# Altium footprint library LUMW.PcbLib: 4 footprints
Each footprint in its own frame and in the unit in brackets; x right, y up, seen from the top. Pads: shape width x height; smd on the part's side, far side on the other; paste and mask are expansions set on the pad; w line width, h text height; cw(c..) or ccw(c..) is an arc to the next point about the centre after c.
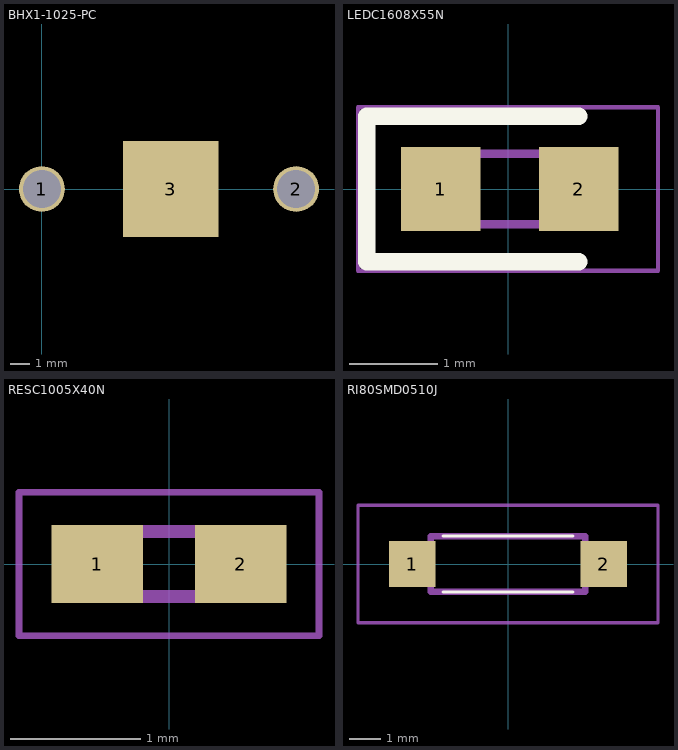
[diagram p0: the footprints below, top view; thin cyan lines are the x and y axes]

## BHX1-1025-PC [mm]
pads (3):
  round 2.4 hole 2: 1(0,0) 2(13.3,0)
  rect 5x5 smd: 3(6.731,0)
3D body: height 1.91, standoff 0.13, extent 12.544,-0.76 14.062,0.761
3D body: height 1.91, standoff 0.13, extent -0.76,-0.76 0.758,0.76
3D body: height 3.56, standoff 0, extent -0.254,-3.429 13.554,4.826

## LEDC1608X55N [mm]
pads (2):
  rect 0.9x0.95 smd: 1(-0.762,0) 2(0.8,0)
Top Overlay:
  lines w0.2: 0.8,-0.825 -1.6,-0.825 -1.6,0.825 0.8,0.825
Mechanical 13:
  lines w0.1: -0.8,0.133 -0.533,0.4 ; -0.8,-0.4 0.8,-0.4 0.8,0.4 -0.8,0.4 -0.8,-0.4
Mechanical 15:
  lines w0.05: -1.7,-0.925 1.7,-0.925 1.7,0.925 -1.7,0.925 -1.7,-0.925
3D body: height 0.51, standoff 0, extent -0.85,-0.45 0.85,0.45
3D body: height 0.25, standoff 0, extent -0.85,0 -0.85,0
3D body: height 0.25, standoff 0, extent -1.143,-0.45 -0.85,0.45
3D body: height 0.25, standoff 0, extent 0.85,-0.45 1.143,0.45

## RESC1005X40N [mm]
pads (2):
  rect 0.7x0.6 smd: 1(-0.55,0) 2(0.55,0)
Mechanical 13:
  lines w0.1: -0.5,-0.25 -0.5,0.25 0.5,0.25 0.5,-0.25 -0.5,-0.25
Mechanical 15:
  lines w0.05: -1.15,-0.55 -1.15,0.55 1.15,0.55 1.15,-0.55 -1.15,-0.55
3D body: height 1.27, standoff 0, extent -0.499,-0.249 0.499,0.249

## RI80SMD0510J [mm]
pads (2):
  rect 1.5x1.5 smd: 1(-3.1,0) 2(3.1,0)
Top Overlay:
  lines w0.1: -2.1,-0.9 2.1,-0.9 ; -2.1,0.9 2.1,0.9
Mechanical 13:
  lines w0.2: -2.5,-0.9 2.5,-0.9 2.5,0.9 -2.5,0.9 -2.5,-0.9
Mechanical 15:
  lines w0.1: -4.85,-1.9 4.85,-1.9 4.85,1.9 -4.85,1.9 -4.85,-1.9